# Altium schematic symbol library CAP_EL.SchLib: 1 symbol
Pins are listed as number, name and electrical type; pins without a type are passive.

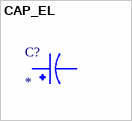
[diagram p0: symbol CAP_EL]

## CAP_EL
designator C?
Value: *
pins: 1, 2